# Altium schematic symbol library MMSZ7V5T1G.SCHLIB: 1 symbol
Pins are listed as number, name and electrical type; pins without a type are passive.

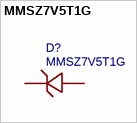
[diagram p0: symbol MMSZ7V5T1G]

## MMSZ7V5T1G
designator D?
BOM_Manufacturer: ON; Contributor: LCSC; SMT Type: Extend; BOM_Supplier Part: C154776; BOM_Supplier: LCSC; BOM_Manufacturer Part: MMSZ7V5T1G; BOM_JLCPCB SMD: Yes; spicePre: D; spiceSymbolName: MMSZ7V5T1G
footprint SOD-123_L2.7-W1.6-LS3.7-RD
pins: 1 C, 2 A